# Altium footprint library SparkFun-IC-Comms.PCBLIB: 16 footprints
Each footprint in its own frame and in the unit in brackets; x right, y up, seen from the top. Pads: shape width x height; smd on the part's side, far side on the other; paste and mask are expansions set on the pad; w line width, h text height; cw(c..) or ccw(c..) is an arc to the next point about the centre after c.
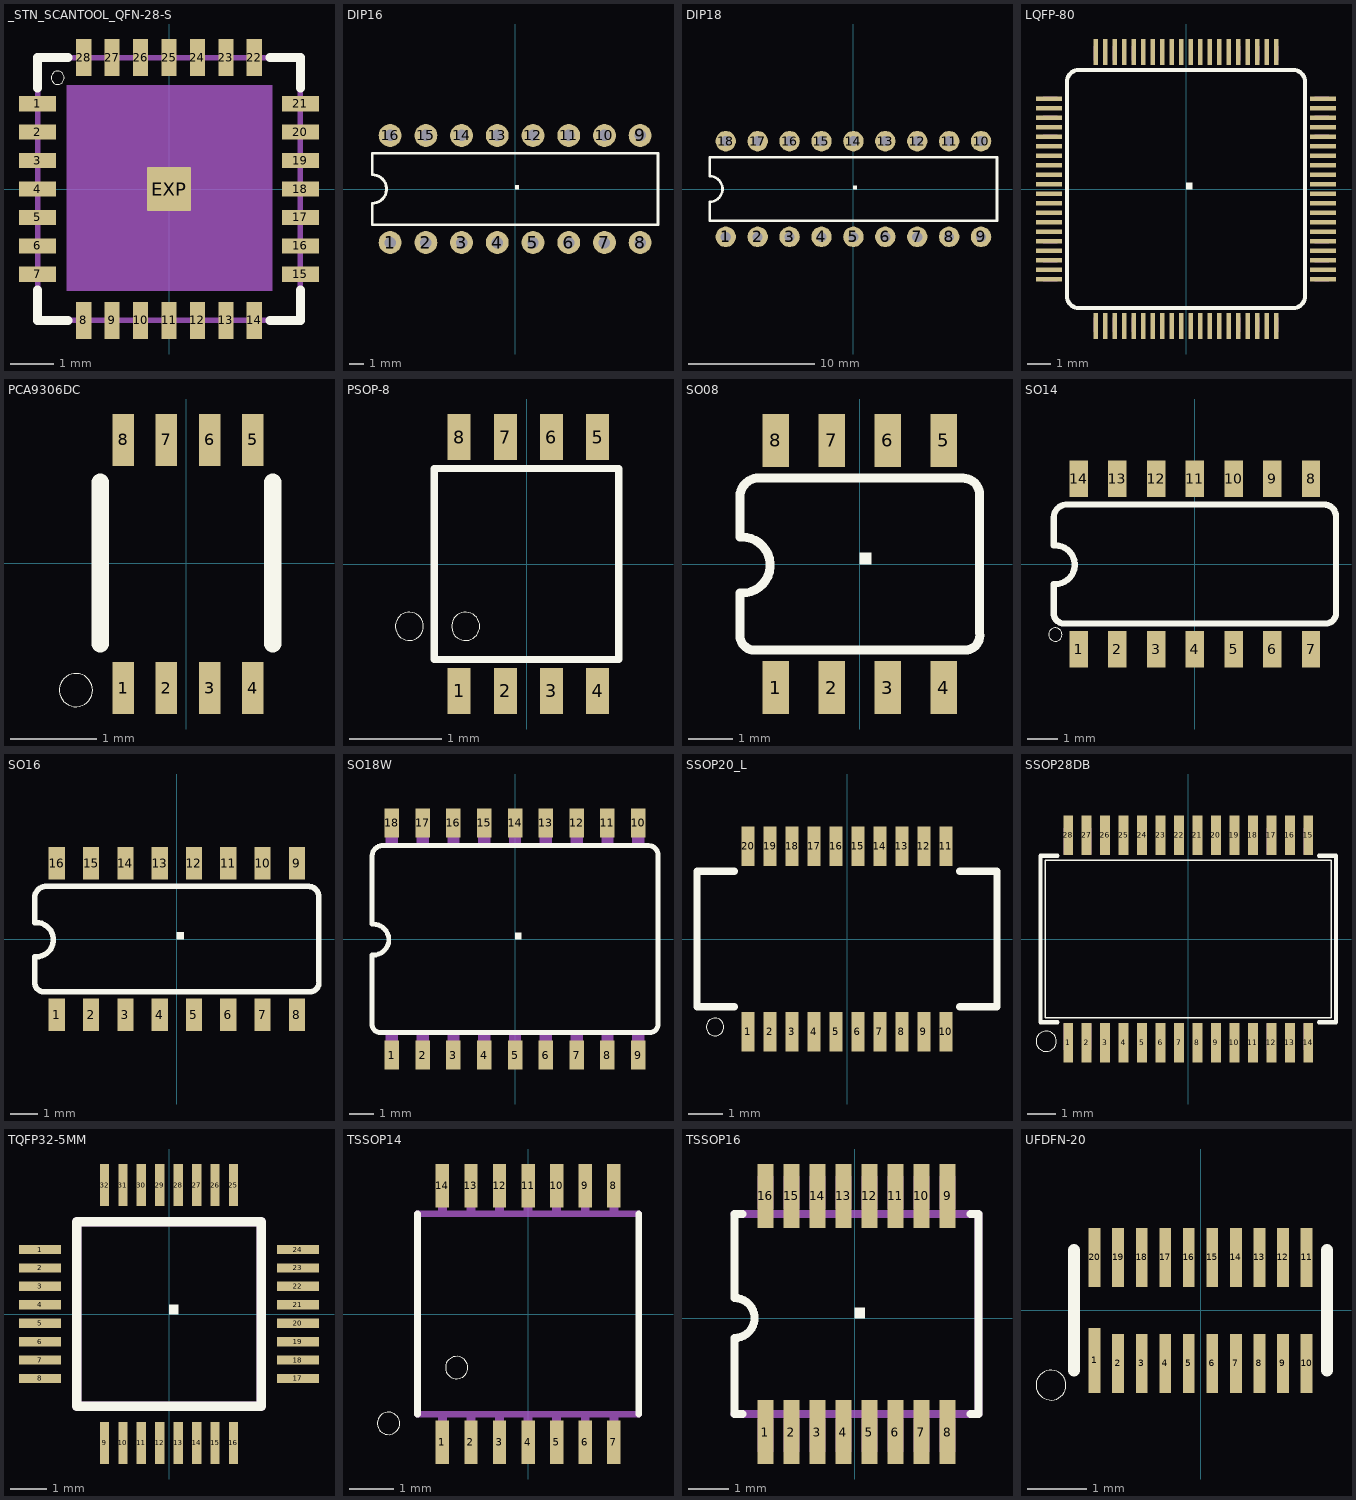
[diagram p0: the footprints below, top view; thin cyan lines are the x and y axes]

## _STN_SCANTOOL_QFN-28-S [mm]
pads (29):
  rect 0.85x0.35 smd: 1(-3,1.95) 2(-3,1.3) 3(-3,0.65) 4(-3,0) 5(-3,-0.65) 6(-3,-1.3) 7(-3,-1.95) 15(3,-1.95) 16(3,-1.3) 17(3,-0.65) 18(3,0) 19(3,0.65) 20(3,1.3) 21(3,1.95)
  rect 0.35x0.85 smd: 8(-1.95,-3) 9(-1.3,-3) 10(-0.65,-3) 11(0,-3) 12(0.65,-3) 13(1.3,-3) 14(1.95,-3) 22(1.95,3) 23(1.3,3) 24(0.65,3) 25(0,3) 26(-0.65,3) 27(-1.3,3) 28(-1.95,3)
  rrect5% 1x1 smd: EXP(0,0)
Top Overlay:
  circle w0: c-2.54,2.54 r0.15
  region: 0,0 0.254,0 0.254,0.254 0,0.254
  lines w0.203: -3,-2.3 -3,-3 -2.3,-3 ; -3,2.3 -3,3 -2.3,3 ; 2.3,-3 3,-3 3,-2.3 ; 2.3,3 3,3 3,2.3
Top Paste:
  rectangle: -0.501,-0.501 0.499,0.499
Mechanical 16:
  lines w0.13: -3,-3 3,-3 3,3 -3,3 -3,-3
Mechanical 27:
  rectangle: -2.34,-2.33 2.36,2.37

## DIP16 [mil]
pads (16):
  round 64 hole 32: 1(-350,-150) 2(-250,-150) 3(-150,-150) 4(-50,-150) 5(50,-150) 6(150,-150) 7(250,-150) 8(350,-150) 9(350,150) 10(250,150) 11(150,150) 12(50,150) 13(-50,150) 14(-150,150) 15(-250,150) 16(-350,150)
Top Overlay:
  region: 0,0 10,0 10,10 0,10
  lines w8: -400,-100 400,-100 400,100 -400,100 -400,40 cw(c-400,0) -400,-40 -400,-100

## DIP18 [mil]
pads (18):
  round 64 hole 32: 1(-400,-150) 2(-300,-150) 3(-200,-150) 4(-100,-150) 5(0,-150) 6(100,-150) 7(200,-150) 8(300,-150) 9(400,-150) 10(400,150) 11(300,150) 12(200,150) 13(100,150) 14(0,150) 15(-100,150) 16(-200,150) 17(-300,150) 18(-400,150)
Top Overlay:
  region: 0,0 10,0 10,10 0,10
  lines w8: -450,-100 450,-100 450,100 -450,100 -450,40 cw(c-450,0) -450,-40 -450,-100

## LQFP-80 [mm]
pads (80):
  rect 0.19x1.1 smd: 1(-3.8,-5.75) 2(-3.4,-5.75) 3(-3,-5.75) 4(-2.6,-5.75) 5(-2.2,-5.75) 6(-1.8,-5.75) 7(-1.4,-5.75) 8(-1,-5.75) 9(-0.6,-5.75) 10(-0.2,-5.75) 11(0.2,-5.75) 12(0.6,-5.75) 13(1,-5.75) 14(1.4,-5.75) 15(1.8,-5.75) 16(2.2,-5.75) 17(2.6,-5.75) 18(3,-5.75) 19(3.4,-5.75) 20(3.8,-5.75) 41(3.8,5.75) 42(3.4,5.75) 43(3,5.75) 44(2.6,5.75) 45(2.2,5.75) 46(1.8,5.75) 47(1.4,5.75) 48(1,5.75) 49(0.6,5.75) 50(0.2,5.75) 51(-0.2,5.75) 52(-0.6,5.75) 53(-1,5.75) 54(-1.4,5.75) 55(-1.8,5.75) 56(-2.2,5.75) 57(-2.6,5.75) 58(-3,5.75) 59(-3.4,5.75) 60(-3.8,5.75)
  rect 1.1x0.19 smd: 21(5.75,-3.8) 22(5.75,-3.4) 23(5.75,-3) 24(5.75,-2.6) 25(5.75,-2.2) 26(5.75,-1.8) 27(5.75,-1.4) 28(5.75,-1) 29(5.75,-0.6) 30(5.75,-0.2) 31(5.75,0.2) 32(5.75,0.6) 33(5.75,1) 34(5.75,1.4) 35(5.75,1.8) 36(5.75,2.2) 37(5.75,2.6) 38(5.75,3) 39(5.75,3.4) 40(5.75,3.8) 61(-5.75,3.8) 62(-5.75,3.4) 63(-5.75,3) 64(-5.75,2.6) 65(-5.75,2.2) 66(-5.75,1.8) 67(-5.75,1.4) 68(-5.75,1) 69(-5.75,0.6) 70(-5.75,0.2) 71(-5.75,-0.2) 72(-5.75,-0.6) 73(-5.75,-1) 74(-5.75,-1.4) 75(-5.75,-1.8) 76(-5.75,-2.2) 77(-5.75,-2.6) 78(-5.75,-3) 79(-5.75,-3.4) 80(-5.75,-3.8)
Top Overlay:
  region: 0,0 0.254,0 0.254,0.254 0,0.254
  lines w0.178: -5,-4.5 -5,4.5 cw(c-4.5,4.5) -4.5,5 4.5,5 cw(c4.5,4.5) 5,4.5 5,-4.5 cw(c4.5,-4.5) 4.5,-5 -4.5,-5 cw(c-4.5,-4.5) -5,-4.5
Mechanical 16:
  rectangle: -6,0.12 -5.4,0.28
  rectangle: -6,-0.28 -5.4,-0.12
  rectangle: -6,-0.68 -5.4,-0.52
  rectangle: -6,-1.08 -5.4,-0.92
  rectangle: -6,-1.48 -5.4,-1.32
  rectangle: -6,-1.88 -5.4,-1.72
  rectangle: -6,-2.28 -5.4,-2.12
  rectangle: -6,-2.68 -5.4,-2.52
  rectangle: -6,-3.08 -5.4,-2.92
  rectangle: -6,-3.48 -5.4,-3.32
  rectangle: -6,-3.88 -5.4,-3.72
  rectangle: -6,0.52 -5.4,0.68
  rectangle: -6,0.92 -5.4,1.08
  rectangle: -6,1.32 -5.4,1.48
  rectangle: -6,1.72 -5.4,1.88
  rectangle: -6,2.12 -5.4,2.28
  rectangle: -6,2.52 -5.4,2.68
  rectangle: -6,2.92 -5.4,3.08
  rectangle: -6,3.32 -5.4,3.48
  rectangle: -6,3.72 -5.4,3.88
  region: 0.12,6 0.12,5.4 0.28,5.4 0.28,6
  region: -0.28,6 -0.28,5.4 -0.12,5.4 -0.12,6
  region: -0.68,6 -0.68,5.4 -0.52,5.4 -0.52,6
  region: -1.08,6 -1.08,5.4 -0.92,5.4 -0.92,6
  region: -1.48,6 -1.48,5.4 -1.32,5.4 -1.32,6
  region: -1.88,6 -1.88,5.4 -1.72,5.4 -1.72,6
  region: -2.28,6 -2.28,5.4 -2.12,5.4 -2.12,6
  region: -2.68,6 -2.68,5.4 -2.52,5.4 -2.52,6
  region: -3.08,6 -3.08,5.4 -2.92,5.4 -2.92,6
  region: -3.48,6 -3.48,5.4 -3.32,5.4 -3.32,6
  region: -3.88,6 -3.88,5.4 -3.72,5.4 -3.72,6
  region: 0.52,6 0.52,5.4 0.68,5.4 0.68,6
  region: 0.92,6 0.92,5.4 1.08,5.4 1.08,6
  region: 1.32,6 1.32,5.4 1.48,5.4 1.48,6
  region: 1.72,6 1.72,5.4 1.88,5.4 1.88,6
  region: 2.12,6 2.12,5.4 2.28,5.4 2.28,6
  region: 2.52,6 2.52,5.4 2.68,5.4 2.68,6
  region: 2.92,6 2.92,5.4 3.08,5.4 3.08,6
  region: 3.32,6 3.32,5.4 3.48,5.4 3.48,6
  region: 3.72,6 3.72,5.4 3.88,5.4 3.88,6
  region: 6,-0.12 5.4,-0.12 5.4,-0.28 6,-0.28
  region: 6,0.28 5.4,0.28 5.4,0.12 6,0.12
  region: 6,0.68 5.4,0.68 5.4,0.52 6,0.52
  region: 6,1.08 5.4,1.08 5.4,0.92 6,0.92
  region: 6,1.48 5.4,1.48 5.4,1.32 6,1.32
  region: 6,1.88 5.4,1.88 5.4,1.72 6,1.72
  region: 6,2.28 5.4,2.28 5.4,2.12 6,2.12
  region: 6,2.68 5.4,2.68 5.4,2.52 6,2.52
  region: 6,3.08 5.4,3.08 5.4,2.92 6,2.92
  region: 6,3.48 5.4,3.48 5.4,3.32 6,3.32
  region: 6,3.88 5.4,3.88 5.4,3.72 6,3.72
  region: 6,-0.52 5.4,-0.52 5.4,-0.68 6,-0.68
  region: 6,-0.92 5.4,-0.92 5.4,-1.08 6,-1.08
  region: 6,-1.32 5.4,-1.32 5.4,-1.48 6,-1.48
  region: 6,-1.72 5.4,-1.72 5.4,-1.88 6,-1.88
  region: 6,-2.12 5.4,-2.12 5.4,-2.28 6,-2.28
  region: 6,-2.52 5.4,-2.52 5.4,-2.68 6,-2.68
  region: 6,-2.92 5.4,-2.92 5.4,-3.08 6,-3.08
  region: 6,-3.32 5.4,-3.32 5.4,-3.48 6,-3.48
  region: 6,-3.72 5.4,-3.72 5.4,-3.88 6,-3.88
  region: -0.12,-6 -0.12,-5.4 -0.28,-5.4 -0.28,-6
  region: 0.28,-6 0.28,-5.4 0.12,-5.4 0.12,-6
  region: 0.68,-6 0.68,-5.4 0.52,-5.4 0.52,-6
  region: 1.08,-6 1.08,-5.4 0.92,-5.4 0.92,-6
  region: 1.48,-6 1.48,-5.4 1.32,-5.4 1.32,-6
  region: 1.88,-6 1.88,-5.4 1.72,-5.4 1.72,-6
  region: 2.28,-6 2.28,-5.4 2.12,-5.4 2.12,-6
  region: 2.68,-6 2.68,-5.4 2.52,-5.4 2.52,-6
  region: 3.08,-6 3.08,-5.4 2.92,-5.4 2.92,-6
  region: 3.48,-6 3.48,-5.4 3.32,-5.4 3.32,-6
  region: 3.88,-6 3.88,-5.4 3.72,-5.4 3.72,-6
  region: -0.52,-6 -0.52,-5.4 -0.68,-5.4 -0.68,-6
  region: -0.92,-6 -0.92,-5.4 -1.08,-5.4 -1.08,-6
  region: -1.32,-6 -1.32,-5.4 -1.48,-5.4 -1.48,-6
  region: -1.72,-6 -1.72,-5.4 -1.88,-5.4 -1.88,-6
  region: -2.12,-6 -2.12,-5.4 -2.28,-5.4 -2.28,-6
  region: -2.52,-6 -2.52,-5.4 -2.68,-5.4 -2.68,-6
  region: -2.92,-6 -2.92,-5.4 -3.08,-5.4 -3.08,-6
  region: -3.32,-6 -3.32,-5.4 -3.48,-5.4 -3.48,-6
  region: -3.72,-6 -3.72,-5.4 -3.88,-5.4 -3.88,-6

## PCA9306DC [mm]
pads (8):
  rect 0.25x0.602 smd: 1(-0.73,-1.446) 2(-0.23,-1.446) 3(0.27,-1.446) 4(0.77,-1.446) 5(0.77,1.431) 6(0.27,1.431) 7(-0.23,1.431) 8(-0.73,1.431)
Top Overlay:
  circle w0: c-1.28,-1.47 r0.192
  lines w0.203: -1,-0.93 -1,0.94 ; 1,-0.93 1,0.94

## PSOP-8 [mm]
pads (8):
  rect 0.25x0.5 smd: 1(-0.73,-1.37) 2(-0.23,-1.37) 3(0.27,-1.37) 4(0.77,-1.37) 5(0.77,1.38) 6(0.27,1.38) 7(-0.23,1.38) 8(-0.73,1.38)
Top Overlay:
  circle w0: c-0.66,-0.67 r0.152
  circle w0: c-1.27,-0.67 r0.152
  lines w0.08: -1,-1.03 1,-1.03 1,1.04 -1,1.04 -1,-1.03

## SO08 [mil]
pads (8):
  rect 23.62x47.24 smd: 1(-75,-110.24) 2(-25,-110.24) 3(25,-110.24) 4(75,-110.24) 5(75,110.24) 6(25,110.24) 7(-25,110.24) 8(-75,110.24)
Top Overlay:
  region: 0,0 10,0 10,10 0,10
  lines w8: -107,-26 -107,-65.56 ccw(c-93.97,-63.6) -92,-76.63 95.94,-76.63 ccw(c93.97,-63.6) 107,-61.63 107,61.63 ccw(c92,61.63) 92,76.63 -92,76.63 ccw(c-90.03,59.66) -107,57.69 ; -107,24 -107,57.19 ; -105,-26 ccw(c-105,-1) -105,24
Mechanical 16:
  rectangle: -85,-130 -65,-89.5
  rectangle: -35,-130 -15,-89.5
  rectangle: 15,-130 35,-89.5
  rectangle: 65,-130 85,-89.5
  rectangle: -35,90 -15,130
  rectangle: 15,90 35,130
  rectangle: 65,90 85,130
  rectangle: -85,90 -65,130

## SO14 [mil]
pads (14):
  rect 23.62x47.24 smd: 1(-150,-110.24) 2(-100,-110.24) 3(-50,-110.24) 4(0,-110.24) 5(50,-110.24) 6(100,-110.24) 7(150,-110.24) 8(150,110.24) 9(100,110.24) 10(50,110.24) 11(0,110.24) 12(-50,110.24) 13(-100,110.24) 14(-150,110.24)
Top Overlay:
  circle w0: c-180,-91 r8.6
  lines w8: -182,-26 -182,-65.56 ccw(c-168.97,-63.6) -167,-76.63 170.94,-76.63 ccw(c168.97,-63.6) 182,-61.63 182,61.63 ccw(c167,61.63) 167,76.63 -167,76.63 ccw(c-165.03,59.66) -182,57.69 ; -182,24 -182,57.19 ; -180,-26 ccw(c-180,-1) -180,24
Mechanical 16:
  rectangle: -160,-130 -140,-89.5
  rectangle: -110,-130 -90,-89.5
  rectangle: -60,-130 -40,-89.5
  rectangle: -10,-130 10,-89.5
  rectangle: 40,-130 60,-89.5
  rectangle: 90,-130 110,-89.5
  rectangle: 140,-130 160,-89.5
  rectangle: -160,90 -140,132.5
  rectangle: -110,90 -90,130
  rectangle: -60,90 -40,130
  rectangle: -10,90 10,130
  rectangle: 40,90 60,130
  rectangle: 90,90 110,130
  rectangle: 140,90 160,130

## SO16 [mil]
pads (16):
  rect 23.62x47.24 smd: 1(-175,-110.24) 2(-125,-110.24) 3(-75,-110.24) 4(-25,-110.24) 5(25,-110.24) 6(75,-110.24) 7(125,-110.24) 8(175,-110.24) 9(175,110.24) 10(125,110.24) 11(75,110.24) 12(25,110.24) 13(-25,110.24) 14(-75,110.24) 15(-125,110.24) 16(-175,110.24)
Top Overlay:
  region: 0,0 10,0 10,10 0,10
  lines w8: -207,-26 -207,-65.56 ccw(c-193.97,-63.6) -192,-76.63 195.94,-76.63 ccw(c193.97,-63.6) 207,-61.63 207,61.63 ccw(c192,61.63) 192,76.63 -192,76.63 ccw(c-190.03,59.66) -207,57.69 ; -207,24 -207,57.19 ; -205,-26 ccw(c-205,-1) -205,24
Mechanical 16:
  rectangle: -185,-130 -165,-89.5
  rectangle: -135,-130 -115,-89.5
  rectangle: -85,-130 -65,-89.5
  rectangle: -35,-130 -15,-89.5
  rectangle: 15,-130 35,-89.5
  rectangle: 65,-130 85,-89.5
  rectangle: 115,-130 135,-89.5
  rectangle: 165,-130 185,-89.5
  rectangle: -135,90 -115,130
  rectangle: -85,90 -65,130
  rectangle: -35,90 -15,130
  rectangle: 15,90 35,130
  rectangle: 65,90 85,130
  rectangle: 115,90 135,130
  rectangle: 165,90 185,130
  rectangle: -185,90 -165,130

## SO18W [mil]
pads (18):
  rect 23.62x47.24 smd: 1(-200,-188.5) 2(-150,-188.5) 3(-100,-188.5) 4(-50,-188.5) 5(0,-188.5) 6(50,-188.5) 7(100,-188.5) 8(150,-188.5) 9(200,-188.5) 10(200,188.5) 11(150,188.5) 12(100,188.5) 13(50,188.5) 14(0,188.5) 15(-50,188.5) 16(-100,188.5) 17(-150,188.5) 18(-200,188.5)
Top Overlay:
  region: 0,0 10,0 10,10 0,10
  lines w8: -232,-26 -232,-140.56 ccw(c-218.97,-138.6) -217,-151.63 220.94,-151.63 ccw(c218.97,-138.6) 232,-136.63 232,136.63 ccw(c217,136.63) 217,151.63 -217,151.63 ccw(c-215.03,134.66) -232,132.69 ; -232,24 -232,132.19 ; -230,-26 ccw(c-230,-1) -230,24
Mechanical 16:
  rectangle: -210,155.63 -190,195.63
  rectangle: -160,155.63 -140,195.63
  rectangle: -110,155.63 -90,195.63
  rectangle: -60,155.63 -40,195.63
  rectangle: -10,155.63 10,195.63
  rectangle: 40,155.63 60,195.63
  rectangle: 190,155.63 210,195.63
  rectangle: 90,155.63 110,195.63
  rectangle: 140,155.63 160,195.63
  region: -190,-155.63 -210,-155.63 -210,-195.63 -190,-195.63
  region: -140,-155.63 -160,-155.63 -160,-195.63 -140,-195.63
  region: -90,-155.63 -110,-155.63 -110,-195.63 -90,-195.63
  region: -40,-155.63 -60,-155.63 -60,-195.63 -40,-195.63
  region: 10,-155.63 -10,-155.63 -10,-195.63 10,-195.63
  region: 60,-155.63 40,-155.63 40,-195.63 60,-195.63
  region: 110,-155.63 90,-155.63 90,-195.63 110,-195.63
  region: 160,-155.63 140,-155.63 140,-195.63 160,-195.63
  region: 210,-155.63 190,-155.63 190,-195.63 210,-195.63

## SSOP20_L [mil]
pads (20):
  rect 15x45 smd: 1(-112.5,-105.5) 2(-87.5,-105.5) 3(-62.5,-105.5) 4(-37.5,-105.5) 5(-12.5,-105.5) 6(12.5,-105.5) 7(37.5,-105.5) 8(62.5,-105.5) 9(87.5,-105.5) 10(112.5,-105.5) 11(112.5,105.5) 12(87.5,105.5) 13(62.5,105.5) 14(37.5,105.5) 15(12.5,105.5) 16(-12.5,105.5) 17(-37.5,105.5) 18(-62.5,105.5) 19(-87.5,105.5) 20(-112.5,105.5)
Top Overlay:
  circle w0: c-150,-100 r10
  lines w8: -128,-77 -170.5,-77 -170.5,77 -128,77 ; 128,-77 170.5,-77 170.5,77 128,77
Mechanical 16:
  rectangle: 7.5,-117.5 17.5,-92.5
  rectangle: 32.5,-117.5 42.5,-92.5
  rectangle: 57.5,-117.5 67.5,-92.5
  rectangle: 82.5,-117.5 92.5,-92.5
  rectangle: 107.5,-117.5 117.5,-92.5
  rectangle: -17.5,-117.5 -7.5,-92.5
  rectangle: -42.5,-117.5 -32.5,-92.5
  rectangle: -67.5,-117.5 -57.5,-92.5
  rectangle: -92.5,-117.5 -82.5,-92.5
  rectangle: -117.5,-117.5 -107.5,-92.5
  region: -7.5,117.5 -17.5,117.5 -17.5,92.5 -7.5,92.5
  region: -32.5,117.5 -42.5,117.5 -42.5,92.5 -32.5,92.5
  region: -57.5,117.5 -67.5,117.5 -67.5,92.5 -57.5,92.5
  region: -82.5,117.5 -92.5,117.5 -92.5,92.5 -82.5,92.5
  region: -107.5,117.5 -117.5,117.5 -117.5,92.5 -107.5,92.5
  region: 17.5,117.5 7.5,117.5 7.5,92.5 17.5,92.5
  region: 42.5,117.5 32.5,117.5 32.5,92.5 42.5,92.5
  region: 67.5,117.5 57.5,117.5 57.5,92.5 67.5,92.5
  region: 92.5,117.5 82.5,117.5 82.5,92.5 92.5,92.5
  region: 117.5,117.5 107.5,117.5 107.5,92.5 117.5,92.5

## SSOP28DB [mil]
pads (28):
  rect 13.7x55 smd: 1(-166.34,-143.94) 2(-140.75,-143.94) 3(-115.16,-143.94) 4(-89.57,-143.94) 5(-63.98,-143.94) 6(-38.39,-143.94) 7(-12.8,-143.94) 8(12.8,-143.94) 9(38.39,-143.94) 10(63.98,-143.94) 11(89.57,-143.94) 12(115.16,-143.94) 13(140.75,-143.94) 14(166.34,-143.94) 15(166.34,143.94) 16(140.75,143.94) 17(115.16,143.94) 18(89.57,143.94) 19(63.98,143.94) 20(38.39,143.94) 21(12.8,143.94) 22(-12.8,143.94) 23(-38.39,143.94) 24(-63.98,143.94) 25(-89.57,143.94) 26(-115.16,143.94) 27(-140.75,143.94) 28(-166.34,143.94)
Top Overlay:
  circle w0: c-196.85,-141.73 r14.14
  lines w2: -198.35,-108.78 198.35,-108.78 198.35,108.78 -198.35,108.78 -198.35,-108.78
  lines w6: -181.1,-115.16 -204.72,-115.16 -204.72,115.16 -181.1,115.16 ; 181.1,-115.16 204.72,-115.16 204.72,115.16 181.1,115.16
Mechanical 16:
  rectangle: -172.74,116.76 -159.94,153.54
  rectangle: -172.74,-153.54 -159.94,-116.76
  rectangle: -147.15,-153.54 -134.35,-116.76
  rectangle: -121.56,-153.54 -108.76,-116.76
  rectangle: -147.15,116.76 -134.35,153.54
  rectangle: -121.56,116.76 -108.76,153.54
  rectangle: -95.96,116.76 -83.17,153.54
  rectangle: -70.37,116.76 -57.58,153.54
  rectangle: -44.78,116.76 -31.99,153.54
  rectangle: -19.19,116.76 -6.4,153.54
  rectangle: 6.4,116.76 19.19,153.54
  rectangle: 31.99,116.76 44.78,153.54
  rectangle: 57.58,116.76 70.37,153.54
  rectangle: 83.17,116.76 95.96,153.54
  rectangle: 108.76,116.76 121.56,153.54
  rectangle: 134.35,116.76 147.15,153.54
  rectangle: 159.94,116.76 172.74,153.54
  rectangle: -95.96,-153.54 -83.17,-116.76
  rectangle: -70.37,-153.54 -57.58,-116.76
  rectangle: -44.78,-153.54 -31.99,-116.76
  rectangle: -19.19,-153.54 -6.4,-116.76
  rectangle: 6.4,-153.54 19.19,-116.76
  rectangle: 31.99,-153.54 44.78,-116.76
  rectangle: 57.58,-153.54 70.37,-116.76
  rectangle: 83.17,-153.54 95.96,-116.76
  rectangle: 108.76,-153.54 121.56,-116.76
  rectangle: 134.35,-153.54 147.15,-116.76
  rectangle: 159.94,-153.54 172.74,-116.76

## TQFP32-5MM [mil]
pads (32):
  rect 45x10 smd: 1(-137.8,68.9) 2(-137.8,49.21) 3(-137.8,29.53) 4(-137.8,9.84) 5(-137.8,-9.84) 6(-137.8,-29.53) 7(-137.8,-49.21) 8(-137.8,-68.9) 17(137.8,-68.9) 18(137.8,-49.21) 19(137.8,-29.53) 20(137.8,-9.84) 21(137.8,9.84) 22(137.8,29.53) 23(137.8,49.21) 24(137.8,68.9)
  rect 10x45 smd: 9(-68.9,-137.8) 10(-49.21,-137.8) 11(-29.53,-137.8) 12(-9.84,-137.8) 13(9.84,-137.8) 14(29.53,-137.8) 15(49.21,-137.8) 16(68.9,-137.8) 25(68.9,137.8) 26(49.21,137.8) 27(29.53,137.8) 28(9.84,137.8) 29(-9.84,137.8) 30(-29.53,137.8) 31(-49.21,137.8) 32(-68.9,137.8)
Top Overlay:
  region: 0,0 10,0 10,10 0,10
  lines w10: -98.43,-98.43 98.43,-98.43 98.43,98.43 -98.43,98.43 -98.43,-98.43
Mechanical 16:
  lines w10: -98.43,-98.43 98.43,-98.43 98.43,98.43 -98.43,98.43 -98.43,-98.43

## TSSOP14 [mil]
pads (14):
  rect 12x39 smd: 1(-76.77,-114.87) 2(-51.18,-114.87) 3(-25.59,-114.87) 4(0,-114.87) 5(25.59,-114.87) 6(51.18,-114.87) 7(76.77,-114.87) 8(76.77,114.87) 9(51.18,114.87) 10(25.59,114.87) 11(0,114.87) 12(-25.59,114.87) 13(-51.18,114.87) 14(-76.77,114.87)
Top Overlay:
  circle w0: c-64,-48 r10
  circle w0: c-125,-98 r10
  lines w6: -99,-89.87 -99,89.87 ; 99,-89.87 99,89.87
Mechanical 16:
  rectangle: -80.77,-122.87 -72.77,-89.87
  rectangle: -55.18,-122.87 -47.18,-89.87
  rectangle: -29.59,-122.87 -21.59,-89.87
  rectangle: -4,-122.87 4,-89.87
  rectangle: 21.59,-122.87 29.59,-89.87
  rectangle: 47.18,-122.87 55.18,-89.87
  rectangle: 72.77,-122.87 80.77,-89.87
  rectangle: 72.77,89.87 80.77,122.87
  rectangle: 47.18,89.87 55.18,122.87
  rectangle: 21.59,89.87 29.59,122.87
  rectangle: -4,89.87 4,122.87
  rectangle: -29.59,89.87 -21.59,122.87
  rectangle: -55.18,89.87 -47.18,122.87
  rectangle: -80.77,89.87 -72.77,122.87
  lines w6: -99,-89.87 99,-89.87 ; -99,89.87 99,89.87

## TSSOP16 [mil]
pads (16):
  rect 15.75x62.99 smd: 1(-87.6,-112.2) 2(-62.01,-112.2) 3(-36.42,-112.2) 4(-10.83,-112.2) 5(14.76,-112.2) 6(40.35,-112.2) 7(65.94,-112.2) 8(91.54,-112.2) 9(91.54,120.08) 10(65.94,120.08) 11(40.35,120.08) 12(14.76,120.08) 13(-10.83,120.08) 14(-36.42,120.08) 15(-62.01,120.08) 16(-87.6,120.08)
Top Overlay:
  region: 0,0 10,0 10,10 0,10
  lines w8: -110.24,-94.49 -118.11,-94.49 -118.11,-19.69 ccw(c-118.11,0) -118.11,19.69 -118.11,102.36 -110.24,102.36 ; 114.17,-94.49 122.05,-94.49 122.05,102.36 114.17,102.36
Mechanical 16:
  rectangle: -95.47,-131.89 -79.72,-99.6
  rectangle: -69.88,-131.89 -54.13,-99.6
  rectangle: -44.29,-131.89 -28.54,-99.6
  rectangle: -18.7,-131.89 -2.95,-99.6
  rectangle: 6.89,-131.89 22.64,-99.6
  rectangle: 32.48,-131.89 48.23,-99.6
  rectangle: 58.07,-131.89 73.82,-99.6
  rectangle: 83.66,-131.89 99.41,-99.6
  rectangle: 83.66,107.48 99.41,139.77
  rectangle: 58.07,107.48 73.82,139.77
  rectangle: 32.48,107.48 48.23,139.77
  rectangle: 6.89,107.48 22.64,139.77
  rectangle: -18.7,107.48 -2.95,139.77
  rectangle: -44.29,107.48 -28.54,139.77
  rectangle: -69.88,107.48 -54.13,139.77
  rectangle: -95.47,107.48 -79.72,139.77
  rectangle: -95.47,-131.89 -79.72,-99.6
  rectangle: -69.88,-131.89 -54.13,-99.6
  rectangle: -44.29,-131.89 -28.54,-99.6
  rectangle: -18.7,-131.89 -2.95,-99.6
  rectangle: 6.89,-131.89 22.64,-99.6
  rectangle: 32.48,-131.89 48.23,-99.6
  rectangle: 58.07,-131.89 73.82,-99.6
  rectangle: 83.66,-131.89 99.41,-99.6
  rectangle: 83.66,107.48 99.41,139.77
  rectangle: 58.07,107.48 73.82,139.77
  rectangle: 32.48,107.48 48.23,139.77
  rectangle: 6.89,107.48 22.64,139.77
  rectangle: -18.7,107.48 -2.95,139.77
  rectangle: -44.29,107.48 -28.54,139.77
  rectangle: -69.88,107.48 -54.13,139.77
  rectangle: -95.47,107.48 -79.72,139.77
  lines w8: -118.11,-94.49 122.05,-94.49 122.05,102.36 -118.11,102.36

## UFDFN-20 [mm]
pads (20):
  rect 0.2x1.1 smd: 1(-1.8,-0.85)
  rect 0.2x1 smd: 2(-1.4,-0.9) 3(-1,-0.9) 4(-0.6,-0.9) 5(-0.2,-0.9) 6(0.2,-0.9) 7(0.6,-0.9) 8(1,-0.9) 9(1.4,-0.9) 10(1.8,-0.9) 11(1.8,0.9) 12(1.4,0.9) 13(1,0.9) 14(0.6,0.9) 15(0.2,0.9) 16(-0.2,0.9) 17(-0.6,0.9) 18(-1,0.9) 19(-1.4,0.9) 20(-1.8,0.9)
Top Overlay:
  circle w0: c-2.54,-1.27 r0.254
  lines w0.203: -2.15,-1.025 -2.15,1.025 ; 2.15,-1.025 2.15,1.025
Top Paste:
  rectangle: -1.9,0.5 -1.7,1.3
  rectangle: -1.5,0.5 -1.3,1.3
  rectangle: -1.1,0.5 -0.9,1.3
  rectangle: -0.7,0.5 -0.5,1.3
  rectangle: -0.3,0.5 -0.1,1.3
  rectangle: 0.1,0.5 0.3,1.3
  rectangle: 0.5,0.5 0.7,1.3
  rectangle: 0.9,0.5 1.1,1.3
  rectangle: 1.3,0.5 1.5,1.3
  region: 1.9,1.3 1.7,1.3 1.7,0.5 1.9,0.5
  rectangle: -1.5,-1.3 -1.3,-0.5
  rectangle: -1.1,-1.3 -0.9,-0.5
  rectangle: -0.7,-1.3 -0.5,-0.5
  rectangle: -0.3,-1.3 -0.1,-0.5
  rectangle: 0.1,-1.3 0.3,-0.5
  rectangle: 0.5,-1.3 0.7,-0.5
  rectangle: 0.9,-1.3 1.1,-0.5
  rectangle: 1.3,-1.3 1.5,-0.5
  region: 1.9,-0.5 1.7,-0.5 1.7,-1.3 1.9,-1.3
  rectangle: -1.9,-1.3 -1.7,-0.4